# Altium schematic symbol library ISL6700.SchLib: 1 symbol
Pins are listed as number, name and electrical type; pins without a type are passive.

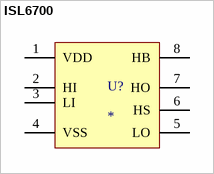
[diagram p0: symbol ISL6700]

## ISL6700
designator U?
Manufacturer: Intersil; Part No.: ISL6700; Vendor: Digi-Key; Price Est.: $2.79
footprint SO8 (M8.15 (JEDEC MS-012-AA ISSUE C)  8 LEAD NARROW BODY SMALL OUTLINE PLASTIC  PACKAGE)
pins: 1 VDD, 2 HI, 3 LI, 4 VSS, 5 LO, 6 HS, 7 HO, 8 HB